# Altium schematic symbol library FUSE.SchLib: 1 symbol
Pins are listed as number, name and electrical type; pins without a type are passive.

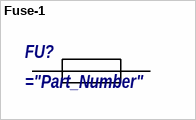
[diagram p0: symbol Fuse-1]

## Fuse-1
designator FU?
="Purchase"
pins: 1, 2